# Altium schematic symbol library TSR 1-2450.SchLib: 1 symbol
Pins are listed as number, name and electrical type; pins without a type are passive.

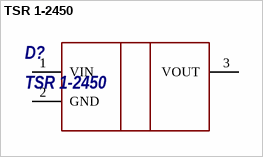
[diagram p0: symbol TSR 1-2450]

## TSR 1-2450
designator D?
pins: 1 VIN, 2 GND, 3 VOUT